# EAGLE library part POCKETBEAGLE (library Project 2)
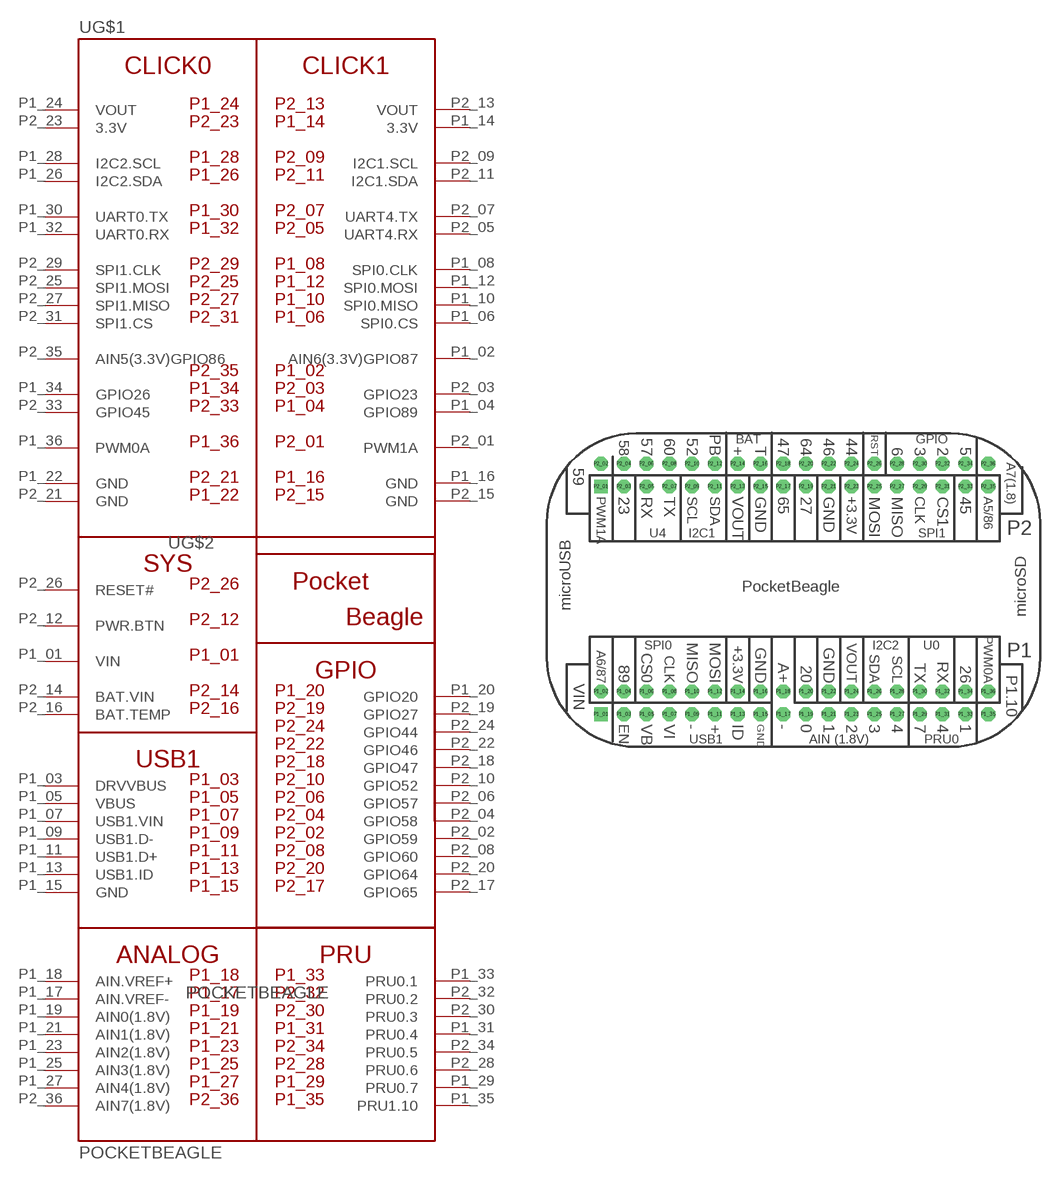
[diagram p0: symbol with the pads of POCKETBEAGLE; footprint POCKETBEAGLE]

Designator prefix U; gates G$1=POCKETBEAGLE G$2=POCKETBEAGLE_GPIO

## POCKETBEAGLE  [POCKETBEAGLE]
P1_01  G$1:VIN  pwr
P1_02  G$1:AIN6(3.3V)GPIO87
P1_03  G$1:DRVVBUS
P1_04  G$1:GPIO89
P1_05  G$1:VBUS
P1_06  G$1:SPI0.CS
P1_07  G$1:USB1.VIN
P1_08  G$1:SPI0.CLK
P1_09  G$1:USB1.D-
P1_10  G$1:SPI0.MISO
P1_11  G$1:USB1.D+
P1_12  G$1:SPI0.MOSI
P1_13  G$1:USB1.ID
P1_14  G$1:3.3V  pwr
P1_15  G$1:GND
P1_16  G$1:GND  pwr
P1_17  G$1:AIN.VREF-  in
P1_18  G$1:AIN.VREF+  in
P1_19  G$1:AIN0(1.8V)  in
P1_20  G$2:GPIO20
P1_21  G$1:AIN1(1.8V)  in
P1_22  G$1:GND  pwr
P1_23  G$1:AIN2(1.8V)  in
P1_24  G$1:VOUT  pwr
P1_25  G$1:AIN3(1.8V)  in
P1_26  G$1:I2C2.SDA
P1_27  G$1:AIN4(1.8V)  in
P1_28  G$1:I2C2.SCL
P1_29  G$1:PRU0.7
P1_30  G$1:UART0.TX
P1_31  G$1:PRU0.4
P1_32  G$1:UART0.RX
P1_33  G$1:PRU0.1
P1_34  G$1:GPIO26
P1_35  G$1:PRU1.10
P1_36  G$1:PWM0A
P2_01  G$1:PWM1A
P2_02  G$2:GPIO59
P2_03  G$1:GPIO23
P2_04  G$2:GPIO58
P2_05  G$1:UART4.RX
P2_06  G$2:GPIO57
P2_07  G$1:UART4.TX
P2_08  G$2:GPIO60
P2_09  G$1:I2C1.SCL
P2_10  G$2:GPIO52
P2_11  G$1:I2C1.SDA
P2_12  G$1:PWR.BTN  in
P2_13  G$1:VOUT  pwr
P2_14  G$1:BAT.VIN  pwr
P2_15  G$1:GND  pwr
P2_16  G$1:BAT.TEMP  in
P2_17  G$2:GPIO65
P2_18  G$2:GPIO47
P2_19  G$2:GPIO27
P2_20  G$2:GPIO64
P2_21  G$1:GND  pwr
P2_22  G$2:GPIO46
P2_23  G$1:3.3V  pwr
P2_24  G$2:GPIO44
P2_25  G$1:SPI1.MOSI
P2_26  G$1:RESET#  in
P2_27  G$1:SPI1.MISO
P2_28  G$1:PRU0.6
P2_29  G$1:SPI1.CLK
P2_30  G$1:PRU0.3
P2_31  G$1:SPI1.CS
P2_32  G$1:PRU0.2
P2_33  G$1:GPIO45
P2_34  G$1:PRU0.5
P2_35  G$1:AIN5(3.3V)GPIO86
P2_36  G$1:AIN7(1.8V)  in

## Footprint POCKETBEAGLE (pad centres in mm)
drill 0.889 pad 1.524 square: P1_01 5.91,3.53; P2_01 5.91,28.93
drill 0.889 pad 1.524 octagon: P1_02 5.91,6.07; P1_03 8.45,3.53; P1_04 8.45,6.07; P1_05 10.99,3.53; P1_06 10.99,6.07; P1_07 13.53,3.53; P1_08 13.53,6.07; P1_09 16.07,3.53; P1_10 16.07,6.07; P1_11 18.61,3.53; P1_12 18.61,6.07; P1_13 21.15,3.53; P1_14 21.15,6.07; P1_15 23.69,3.53; P1_16 23.69,6.07; P1_17 26.23,3.53; P1_18 26.23,6.07; P1_19 28.77,3.53; P1_20 28.77,6.07; P1_21 31.31,3.53; P1_22 31.31,6.07; P1_23 33.85,3.53; P1_24 33.85,6.07; P1_25 36.39,3.53; P1_26 36.39,6.07; P1_27 38.93,3.53; P1_28 38.93,6.07; P1_29 41.47,3.53; P1_30 41.47,6.07; P1_31 44.01,3.53; P1_32 44.01,6.07; P1_33 46.55,3.53; P1_34 46.55,6.07; P1_35 49.09,3.53; P1_36 49.09,6.07; P2_02 5.91,31.47; P2_03 8.45,28.93; P2_04 8.45,31.47; P2_05 10.99,28.93; P2_06 10.99,31.47; P2_07 13.53,28.93; P2_08 13.53,31.47; P2_09 16.07,28.93; P2_10 16.07,31.47; P2_11 18.61,28.93; P2_12 18.61,31.47; P2_13 21.15,28.93; P2_14 21.15,31.47; P2_15 23.69,28.93; P2_16 23.69,31.47; P2_17 26.23,28.93; P2_18 26.23,31.47; P2_19 28.77,28.93; P2_20 28.77,31.47; P2_21 31.31,28.93; P2_22 31.31,31.47; P2_23 33.85,28.93; P2_24 33.85,31.47; P2_25 36.39,28.93; P2_26 36.39,31.47; P2_27 38.93,28.93; P2_28 38.93,31.47; P2_29 41.47,28.93; P2_30 41.47,31.47; P2_31 44.01,28.93; P2_32 44.01,31.47; P2_33 46.55,28.93; P2_34 46.55,31.47; P2_35 49.09,28.93; P2_36 49.09,31.47